# Altium footprint library YaoPCB.PCBLIB: 415 footprints (part 19 of 26)
Each footprint in its own frame and in the unit in brackets; x right, y up, seen from the top. Pads: shape width x height; smd on the part's side, far side on the other; paste and mask are expansions set on the pad; w line width, h text height; cw(c..) or ccw(c..) is an arc to the next point about the centre after c.
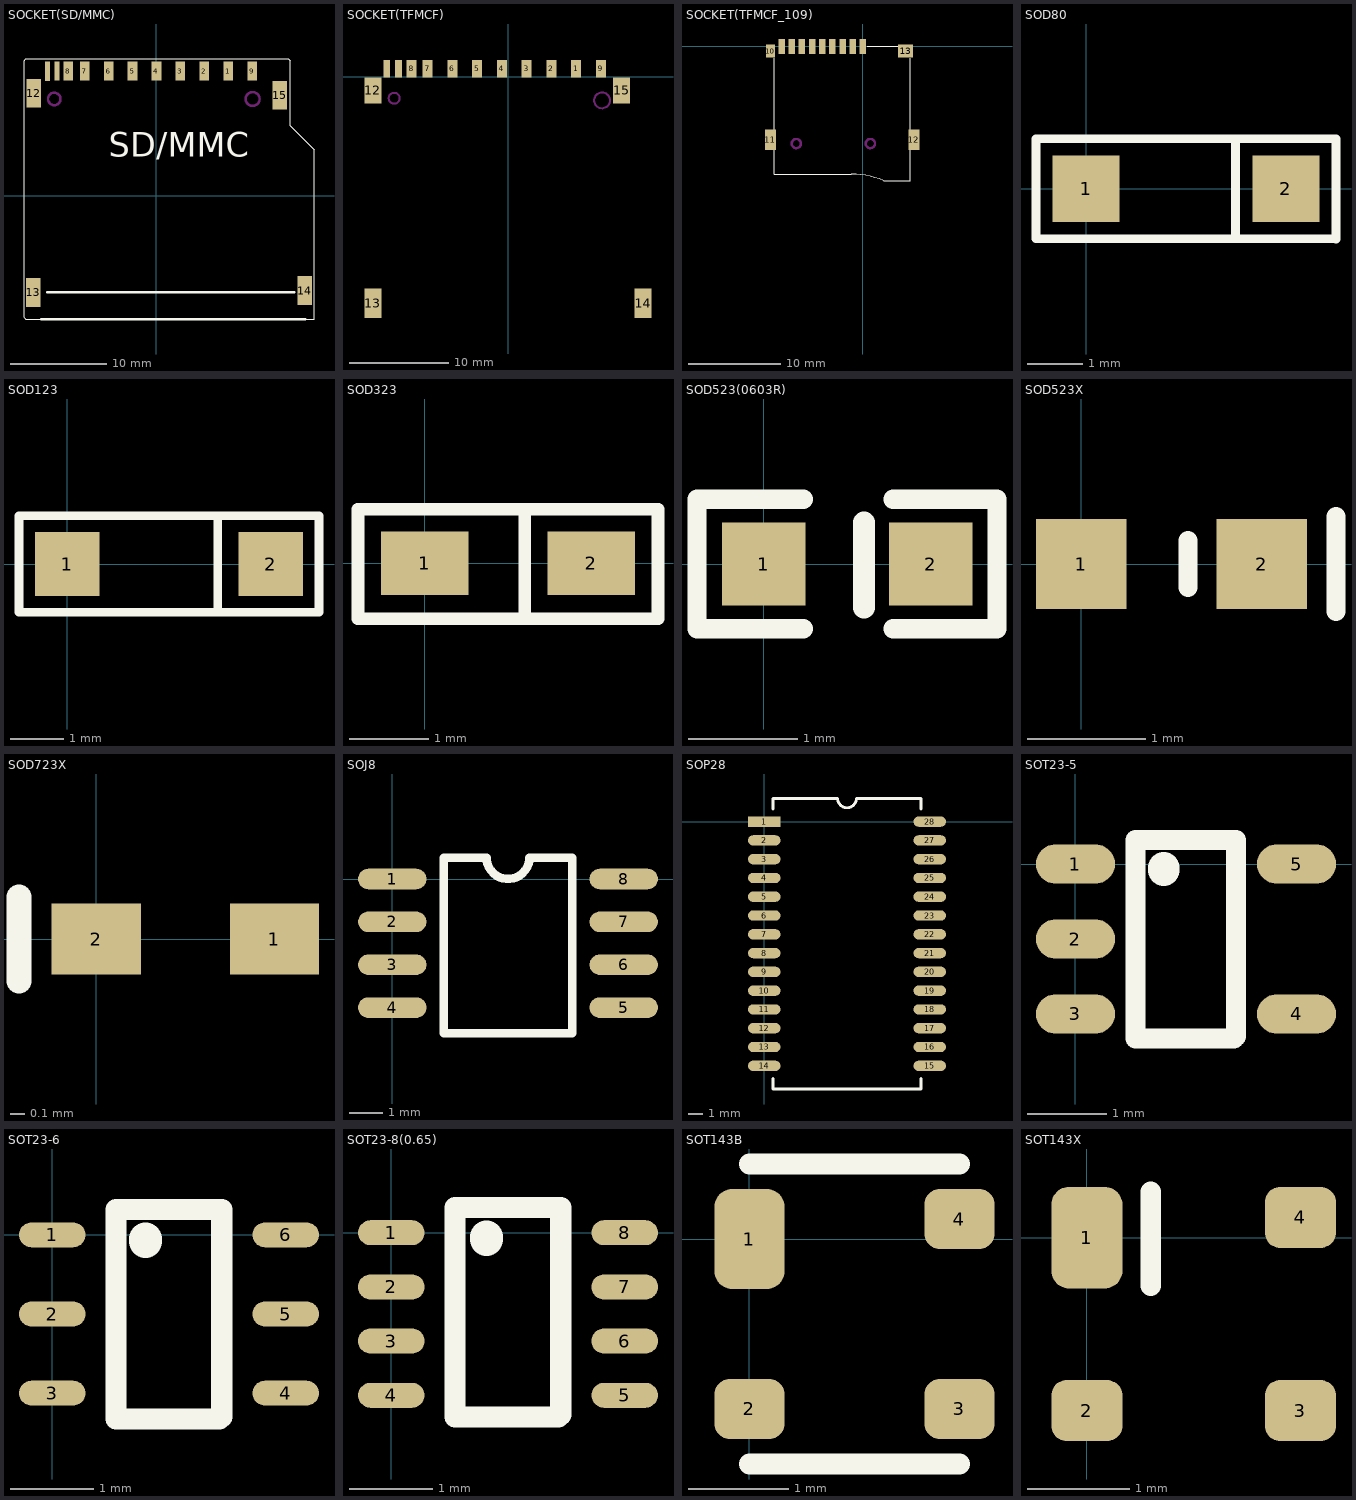
[diagram p18: the footprints below, top view; thin cyan lines are the x and y axes]

## SOCKET(SD/MMC) [mm]
height 2.54
pads (15):
  rect 1x2 smd: 1(7.528,12.998) 2(5.028,12.998) 3(2.528,12.998) 4(0.028,12.998) 5(-2.472,12.998) 6(-4.972,12.998) 7(-7.472,12.998) 8(-9.172,12.998) 9(10.028,12.998)
  rect 0.5x2 smd: 10(-10.366,12.998) 11(-11.356,12.973)
  rect 1.5x3 smd: 12(-12.802,10.683) 13(-12.827,-10.117) 14(15.498,-9.917) 15(12.898,10.483)
TopOverlay:
  lines w0.076: -13.302,-12.917 16.498,-12.917 ; -11.202,-12.917 -13.602,-12.917 -13.702,-12.817 -13.802,-12.717 -13.802,14.083 -13.602,14.283 13.798,14.283 13.998,14.083 13.998,7.283 16.498,4.783 16.498,-12.917 ; 16.498,-12.917 16.498,-12.917
  lines w0.254: -12.027,-12.917 15.573,-12.917 ; -11.402,-10.117 14.398,-10.117
  text "SD/MMC" at -4.953,4.064 h2.54
KeepOutLayer:
  circle w0.254: c-10.652,10.083 r0.65
  circle w0.254: c10.071,10.083 r0.727

## SOCKET(TFMCF) [mm]
pads (15):
  rect 1x1.8 smd: 1(6.88,0.8) 2(4.38,0.8) 3(1.88,0.8) 4(-0.62,0.8) 5(-3.12,0.8) 6(-5.62,0.8) 7(-8.12,0.8) 8(-9.745,0.8) 9(9.38,0.8)
  rect 0.7x1.8 smd: 10(-11.045,0.8) 11(-12.245,0.8)
  rect 1.7x2.6 smd: 12(-13.65,-1.4) 15(11.48,-1.4)
  rect 1.7x3 smd: 13(-13.65,-22.9) 14(13.65,-22.9)
KeepOutLayer:
  circle w0.2: c-11.5,-2.18 r0.55
  circle w0.2: c9.5,-2.4 r0.8

## SOCKET(TFMCF_109) [mm]
pads (13):
  rect 0.7x1.6 smd: 1(0,0) 2(-1.1,0) 3(-2.2,0) 4(-3.3,0) 5(-4.4,0) 6(-5.5,0) 7(-6.6,0) 8(-7.7,0) 9(-8.8,0)
  rect 1x1.4 smd: 10(-10,-0.5)
  rect 1.2x2.2 smd: 11(-10,-10.1) 12(5.5,-10.1)
  rect 1.6x1.4 smd: 13(4.6,-0.5)
TopOverlay:
  lines w0.127: -9.6,-1.3 -9.6,-13.8 -1.25,-13.8 cw(c-1.262,-22.712) 2.242,-14.518 ; 0.45,0 3.75,0 ; 2.25,-14.5 5.1,-14.5 5.1,-1.3
KeepOutLayer:
  circle w0.254: c-7.2,-10.5 r0.5
  circle w0.254: c0.801,-10.5 r0.5

## SOD80 [mm]
pads (2):
  rect 1.2x1.2 smd: 1(0,0) 2(3.6,0)
TopOverlay:
  lines w0.16: 2.69,-0.9 2.69,0.9 ; 4.5,-0.91 4.5,0.89 ; 4.5,-0.9 -0.9,-0.9 -0.9,0.9 4.5,0.9

## SOD123 [mm]
pads (2):
  rect 1.2x1.2 smd: 1(0,0) 2(3.8,0)
TopOverlay:
  lines w0.16: 2.81,-0.9 2.81,0.9 ; -0.9,-0.9 -0.9,0.9 4.7,0.9 4.7,-0.9 -0.9,-0.9

## SOD323 [mm]
pads (2):
  rect 1.1x0.8 smd: 1(0,0) 2(2.1,0)
TopOverlay:
  lines w0.16: 1.26,-0.7 1.26,0.68 ; -0.84,-0.7 2.94,-0.7 2.94,0.68 -0.84,0.68 -0.84,-0.7

## SOD523(0603R) [mil]
pads (2):
  rect 30x30 smd: 1(0,0) 2(60,0)
TopOverlay:
  lines w7: 14.22,-23.23 -24.02,-23.23 -24.02,23.23 14.22,23.23 ; 46.46,-23.23 83.86,-23.23 83.86,23.23 46.46,23.23
  lines w7.87: 35.98,-15.75 35.98,14.96

## SOD523X [mil]
pads (2):
  rect 30x30 smd: 1(0,0) 2(60,0)
TopOverlay:
  lines w6.3: 35.43,-7.87 35.43,7.87 ; 84.65,-15.75 84.65,15.75

## SOD723X [mil]
pads (2):
  rect 25x20 smd: 1(50,0) 2(0,0)
TopOverlay:
  lines w7: -21.65,-11.81 -21.65,11.81

## SOJ8 [mil]
pads (8):
  oval 80x24 smd: 1(0,0) 2(0,-50) 3(0,-100) 4(0,-150) 5(270,-150) 6(270,-100) 7(270,-50) 8(270,0)
TopOverlay:
  lines w10: 60,-180 60,25 110,25 ccw(c135,25) 160,25 210,25 210,-180 60,-180

## SOP28 [mm]
pads (28):
  rect 2.2x0.7 smd: 1(0,0)
  oval 2.2x0.7 smd: 2(0,-1.27) 3(0,-2.54) 4(0,-3.81) 5(0,-5.08) 6(0,-6.35) 7(0,-7.62) 8(0,-8.89) 9(0,-10.16) 10(0,-11.43) 11(0,-12.7) 12(0,-13.97) 13(0,-15.24) 14(0,-16.51) 15(11.2,-16.51) 16(11.2,-15.24) 17(11.2,-13.97) 18(11.2,-12.7) 19(11.2,-11.43) 20(11.2,-10.16) 21(11.2,-8.89) 22(11.2,-7.62) 23(11.2,-6.35) 24(11.2,-5.08) 25(11.2,-3.81) 26(11.2,-2.54) 27(11.2,-1.27) 28(11.2,0)
TopOverlay:
  lines w0.2: 0.585,-17.36 0.585,-18.08 10.615,-18.08 10.615,-17.36 ; 0.585,0.85 0.585,1.57 4.965,1.57 ccw(c5.6,1.57) 6.235,1.57 10.615,1.57 10.615,0.85

## SOT23-5 [mm]
pads (5):
  oval 1x0.5 smd: 1(0,0) 2(0,-0.95) 3(0,-1.9) 4(2.8,-1.9) 5(2.8,0)
TopOverlay:
  lines w0.254: 2.007,-2.21 0.762,-2.21 0.762,0.305 2.032,0.305 2.032,-2.184
  lines w0.4: 1.118,-0.076 1.118,-0.051

## SOT23-6 [mm]
pads (6):
  oval 0.8x0.3 smd: 1(0,0) 2(0,-0.95) 3(0,-1.9) 4(2.8,-1.9) 5(2.8,-0.95) 6(2.8,0)
TopOverlay:
  lines w0.254: 2.007,-2.21 0.762,-2.21 0.762,0.305 2.032,0.305 2.032,-2.184
  lines w0.4: 1.118,-0.076 1.118,-0.051

## SOT23-8(0.65) [mm]
pads (8):
  oval 0.8x0.3 smd: 1(0,0) 2(0,-0.65) 3(0,-1.3) 4(0,-1.95) 5(2.8,-1.95) 6(2.8,-1.3) 7(2.8,-0.65) 8(2.8,0)
TopOverlay:
  lines w0.254: 2.007,-2.21 0.762,-2.21 0.762,0.305 2.032,0.305 2.032,-2.184
  lines w0.4: 1.143,-0.076 1.143,-0.051

## SOT143B [mm]
pads (4):
  rrect50% 0.7x1 smd: 1(0,0)
  rrect50% 0.7x0.6 smd: 2(0,-1.7) 3(2.1,-1.7) 4(2.1,0.2)
TopOverlay:
  lines w0.21: 0,-2.25 2.1,-2.25 ; 0,0.75 2.1,0.75

## SOT143X [mm]
pads (4):
  rrect50% 0.7x1 smd: 1(0,0)
  rrect50% 0.7x0.6 smd: 2(0,-1.7) 3(2.1,-1.7) 4(2.1,0.2)
TopOverlay:
  lines w0.203: 0.63,-0.47 0.63,0.45